# Altium schematic symbol library 原子战舰STM32F103ZET6.SCHLIB: 20 symbols
Pins are listed as number, name and electrical type; pins without a type are passive.

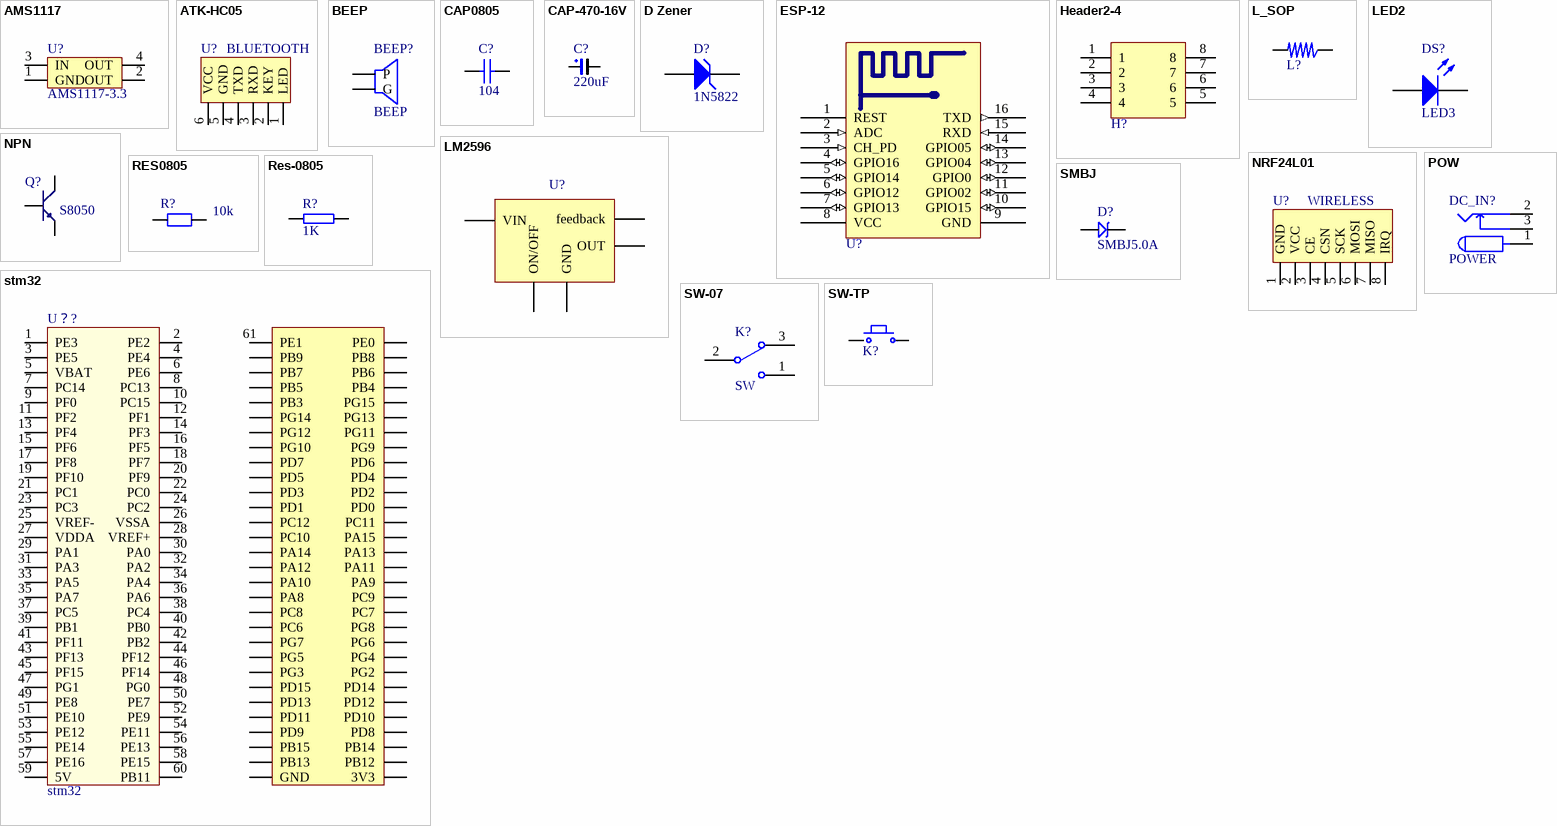
[diagram p0: symbols AMS1117 to SW-TP]

## AMS1117
designator U?, comment AMS1117-3.3
footprint AMS1117
pins: 1 GND, 2 OUT, 3 IN, 4 OUT

## ATK-HC05
designator U?, comment BLUETOOTH
ATK-HC05
footprint HEAD6 (PIN:2.54mm;HEAD;)
pins: 1 LED, 2 KEY, 3 RXD, 4 TXD, 5 GND, 6 VCC

## BEEP
designator BEEP?
footprint BUZZ0.25
footprint BELL-5 (PIN:5MM,SIZE:10MM)
pins: 1 P, 2 G

## CAP0805
designator C?, comment 104
footprint C0805
pins: 1, 2

## CAP-470-16V
designator C?, comment 220uF
footprint CAP-470-16V
pins: 1, 2

## D Zener
designator D?, comment 1N5822
Zener Diode
footprint D-9.9X6.0MM
pins: 1 A, 2 K

## ESP-12
designator U?  (value not drawn)
footprint ESP12 (Footprint not found)
footprint ESP12 (ESP-12 Wi-Fi Mod)
pins: 1 REST, 2 ADC (in), 3 CH_PD (in), 4 GPIO16 (io), 5 GPIO14 (io), 6 GPIO12 (io), 7 GPIO13 (io), 8 VCC (power), 9 GND (power), 10 GPIO15 (io), 11 GPIO02 (io), 12 GPIO0 (io), 13 GPIO04 (io), 14 GPIO05 (io), 15 RXD (in), 16 TXD (out)

## Header2-4
designator H?  (value not drawn)
footprint Header2-4
pins: 1, 2, 3, 4, 5, 6, 7, 8

## L_SOP
designator L?, comment 4.7uH  (value not drawn)
footprint L_SOP74 (7.4*7.4)
pins: 1, 2

## LED2
designator DS?, comment LED3
Typical RED, GREEN, YELLOW, AMBER GaAs LED; Published: 8-Jun-2000; LatestRevisionDate: 17-Jul-2002; LatestRevisionNote: Re-released for DXP Platform.; PackageDocument: Feb-2002; PackageReference: 3.2X1.6X1.1; Publisher: Altium Limited
footprint SMDLED
simulation model LED2 (Diode)
pins: 1 A, 2 K

## LM2596
designator U?  (value not drawn)
footprint LM2596 5.0
footprint LM2596
pins: 1 VIN, 2 OUT, 3 GND, 4 feedback, 5 ON/OFF

## NPN
designator Q?, comment S8050
8050/BCW846/BCW847
footprint SOT-23R (SOT-23; 3 Leads; Body 3.0 x 2.5 mm, inc. leads (LxW max))
pins: 1 E, 2 B, 3 C

## NRF24L01
designator U?, comment WIRELESS
footprint NRF24L01
pins: 1 GND, 2 VCC, 3 CE, 4 CSN, 5 SCK, 6 MOSI, 7 MISO, 8 IRQ

## POW
designator DC_IN?, comment POWER
footprint DC10B
pins: 1, 2, 3

## RES0805
designator R?, comment 10k
footprint RES0805
pins: 1, 2

## Res-0805
designator R?, comment 1K
footprint R0805
pins: 1, 2

## SMBJ
designator D?, comment SMBJ5.0A
TVS
footprint SMBJ (3.9*5.6)
pins: 1, 2

## stm32
designator U？?
footprint STM32
pins: 1 PE3, 2 PE2, 3 PE5, 4 PE4, 5 VBAT, 6 PE6, 7 PC14, 8 PC13, 9 PF0, 10 PC15, 11 PF2, 12 PF1, 13 PF4, 14 PF3, 15 PF6, 16 PF5, 17 PF8, 18 PF7, 19 PF10, 20 PF9, 21 PC1, 22 PC0, 23 PC3, 24 PC2, 25 VREF-, 26 VSSA, 27 VDDA, 28 VREF+, 29 PA1, 30 PA0, 31 PA3, 32 PA2, 33 PA5, 34 PA4, 35 PA7, 36 PA6, 37 PC5, 38 PC4, 39 PB1, 40 PB0, 41 PF11, 42 PB2, 43 PF13, 44 PF12, 45 PF15, 46 PF14, 47 PG1, 48 PG0, 49 PE8, 50 PE7, 51 PE10, 52 PE9, 53 PE12, 54 PE11, 55 PE14, 56 PE13, 57 PE16, 58 PE15, 59 5V, 60 PB11, 61 PE1, 62 PB9, 63 PB7, 64 PB5, 65 PB3, 66 PG14, 67 PG12, 68 PG10, 69 PD7, 70 PD5, 71 PD3, 72 PD1, 73 PC12, 74 PC10, 75 PA14, 76 PA12, 77 PA10, 78 PA8, 79 PC8, 80 PC6, 81 PG7, 82 PG5, 83 PG3, 84 PD15, 85 PD13, 86 PD11, 87 PD9, 88 PB15, 89 PB13, 90 GND, 91 3V3, 92 PB12, 93 PB14, 94 PD8, 95 PD10, 96 PD12, 97 PD14, 98 PG2, 99 PG4, 100 PG6, 101 PG8, 102 PC7, 103 PC9, 104 PA9, 105 PA11, 106 PA13, 107 PA15, 108 PC11, 109 PD0, 110 PD2, 111 PD4, 112 PD6, 113 PG9, 114 PG11, 115 PG13, 116 PG15, 117 PB4, 118 PB6, 119 PB8, 120 PE0

## SW-07
designator K?, comment SW
footprint SW-07
pins: 1, 2, 3

## SW-TP
designator K?  (value not drawn)
footprint SW-TP
pins: 1, 2